# Altium footprint library Standard.PcbLib: 21 footprints (part 2 of 2)
Each footprint in its own frame and in the unit in brackets; x right, y up, seen from the top. Pads: shape width x height; smd on the part's side, far side on the other; paste and mask are expansions set on the pad; w line width, h text height; cw(c..) or ccw(c..) is an arc to the next point about the centre after c.
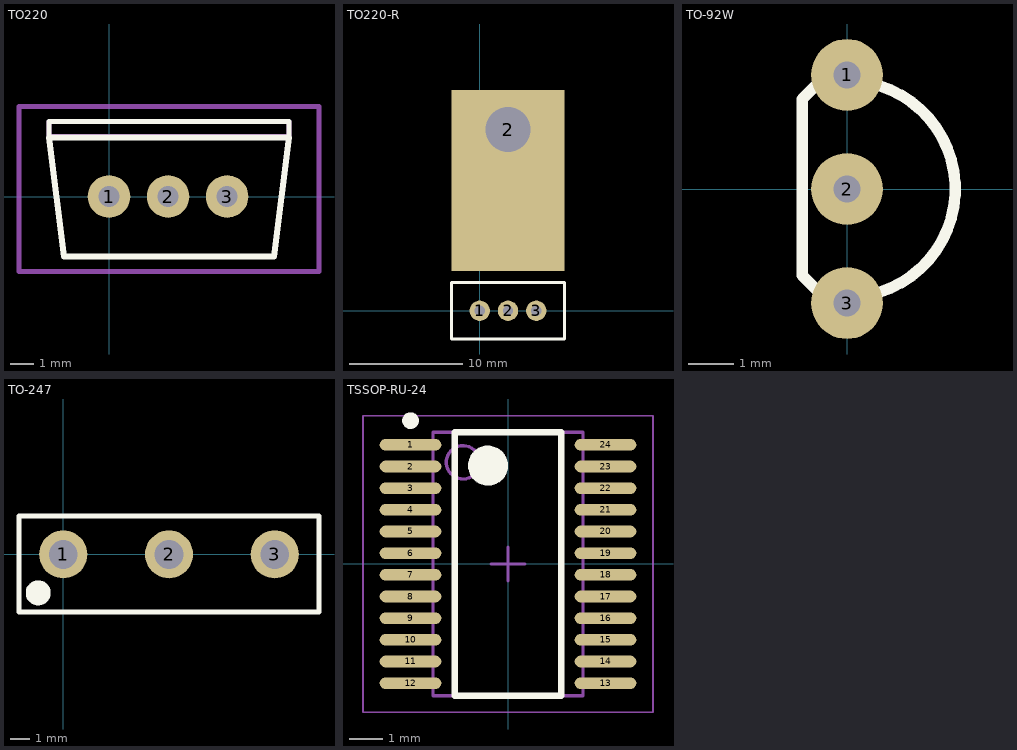
[diagram p1: the footprints below, top view; thin cyan lines are the x and y axes]

## TO220 [mm] "Стоячий TO-220"
height 5
pads (3):
  round 1.8 hole 0.9: 1(0,0) 2(2.5,0) 3(5,0)
Top Overlay:
  lines w0.2: -2.54,2.5 -2.54,3.175 7.62,3.175 7.62,2.5
  lines w0.254: -2.54,2.5 7.62,2.5 6.985,-2.54 -1.905,-2.54 -2.54,2.5
Mechanical 13:
  lines w0.2: -2.54,2.54 -1.905,-2.54 6.985,-2.54 7.62,2.54 ; -2.54,2.54 -2.54,3.175 7.62,3.175 7.62,2.54 ; -2.54,2.54 7.62,2.54
Mechanical 15:
  lines w0.2: 1.905,0 2.54,0 ; 2.54,-0.635 2.54,0 ; 2.54,0.635 2.54,0 ; 3.175,0 2.54,0 ; -3.81,-3.175 -3.81,3.81 8.89,3.81 8.89,-3.175 -3.81,-3.175
3D body "TO-220 3pins short V1.stp": height 20.11, standoff -2, extent -3.402,-1.778 8.482,2.622

## TO220-R [mm] "Лежачий TO-220"
height 5
pads (4):
  round 1.8 hole 0.9: 1(0,0) 2(2.5,0) 3(5,0)
  rect 10x16 hole 4 copper offset 0,-4.5: 2(2.5,16)
Top Overlay:
  lines w0.254: -2.5,-2.5 -2.5,2.5 7.5,2.5 7.5,-2.5 -2.5,-2.5
3D body "TO-220-R.step": height 4.2, standoff -3, extent -2.54,-0.25 7.62,19.24

## TO-92W [mm] "TO-92"
height 10
pads (3):
  round 1.6 hole 0.6: 1(0,2.54) 2(0,0) 3(0,-2.54)
Top Overlay:
  lines w0.254: -1,-1.923 -0.584,-2.338 ccw(c0,0) -0.585,2.338 -0.662,2.338 -1,2 -1,-1.923

## TO-247 [mm] "TO-247AC"
height 37.07
pads (3):
  round 2.5 hole 1.5: 1(0,0) 2(5.5,0) 3(11,0)
Top Overlay:
  circle w0.7: c-1.3,-2 r0.3
  lines w0.254: -1.4,-3 -0.2,-3 ; 11.7,-3 12.3,-3 ; -2.3,-3 13.3,-3 13.3,2 -2.3,2 -2.3,-2.9 -2.3,-3
3D body "TO-247.STEP": height 25.5, standoff -13.5, extent -2.25,-3 13.25,2

## TSSOP-RU-24 [mm] "TSOP, 24-Leads, Body 7,80x4,40mm, Pitch 0,65mm, IPC Low Density"
height 1.2
pads (24):
  oval 1.85x0.35 smd: 1(-2.925,3.575) 2(-2.925,2.925) 3(-2.925,2.275) 4(-2.925,1.625) 5(-2.925,0.975) 6(-2.925,0.325) 7(-2.925,-0.325) 8(-2.925,-0.975) 9(-2.925,-1.625) 10(-2.925,-2.275) 11(-2.925,-2.925) 12(-2.925,-3.575) 13(2.925,-3.575) 14(2.925,-2.925) 15(2.925,-2.275) 16(2.925,-1.625) 17(2.925,-0.975) 18(2.925,-0.325) 19(2.925,0.325) 20(2.925,0.975) 21(2.925,1.625) 22(2.925,2.275) 23(2.925,2.925) 24(2.925,3.575)
Top Overlay:
  circle w0.6: c-0.6,2.95 r0.3
  circle w0.25: c-2.925,4.3 r0.125
  lines w0.2: -1.6,-3.95 1.6,-3.95 1.6,3.95 -1.6,3.95 -1.6,-3.95
Mechanical 13:
  circle w0.1: c-1.35,3.05 r0.5
  lines w0.1: -2.25,-3.95 2.25,-3.95 2.25,3.95 -2.25,3.95 -2.25,-3.95
Mechanical 15:
  lines w0.05: -4.35,-4.45 4.35,-4.45 4.35,4.45 -4.35,4.45 -4.35,-4.45
  lines w0.1: -0.5,0 0.5,0 ; 0,-0.5 0,0.5
3D body: height 1.2, standoff 0.1, extent -2.25,-3.95 2.25,3.95